# EAGLE library part EFM32ZG108 (library boneyard)
EFM32 ARM Cortex-M0+ CPU platform up to 24 MHz 32/16/8/4 KB Flash 4/4/2/2 KB RAM
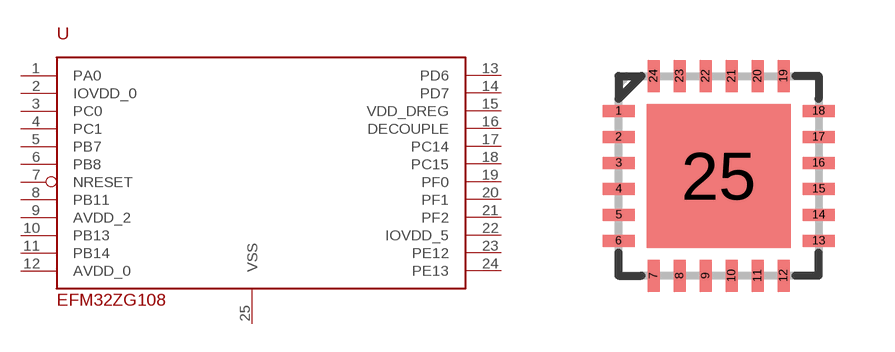
[diagram p1: symbol with the pads of QFN-24; footprint QFN-24]

Designator prefix U

## EFM32ZG108  [QFN-24]
1  PA0
2  IOVDD_0  pwr
3  PC0
4  PC1
5  PB7
6  PB8
7  NRESET  in
8  PB11
9  AVDD_2  pwr
10  PB13
11  PB14
12  AVDD_0  pwr
13  PD6
14  PD7
15  VDD_DREG  pwr
16  DECOUPLE  out
17  PC14
18  PC15
19  PF0
20  PF1
21  PF2
22  IOVDD_5  pwr
23  PE12
24  PE13
25  VSS  pwr

## Footprint QFN-24 (pad centres in mm)
smd 0.8 x 0.3: 1 0.04,-0.915; 2 0.04,-1.565; 3 0.04,-2.215; 4 0.04,-2.865; 5 0.04,-3.515; 6 0.04,-4.165; 13 5.04,-4.165; 14 5.04,-3.515; 15 5.04,-2.865; 16 5.04,-2.215; 17 5.04,-1.565; 18 5.04,-0.915
smd 0.3 x 0.8: 7 0.915,-5.04; 8 1.565,-5.04; 9 2.215,-5.04; 10 2.865,-5.04; 11 3.515,-5.04; 12 4.165,-5.04; 19 4.165,-0.04; 20 3.515,-0.04; 21 2.865,-0.04; 22 2.215,-0.04; 23 1.565,-0.04; 24 0.915,-0.04
smd 3.6 x 3.6: 25 2.54,-2.54